# Altium footprint library Sumida_CDRH105R.PcbLib: 1 footprints
Each footprint in its own frame and in the unit in brackets; x right, y up, seen from the top. Pads: shape width x height; smd on the part's side, far side on the other; paste and mask are expansions set on the pad; w line width, h text height; cw(c..) or ccw(c..) is an arc to the next point about the centre after c.
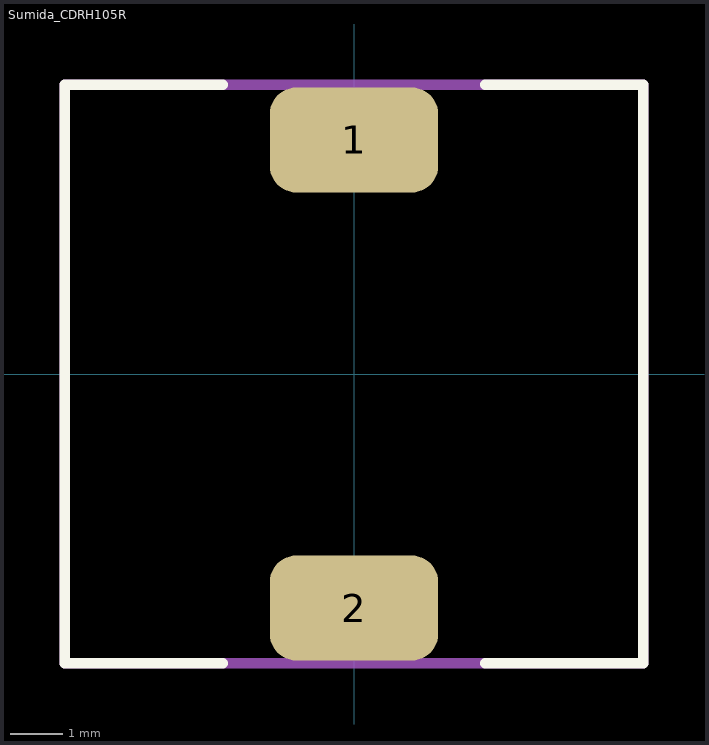
[diagram p0: the footprint, top view; thin cyan lines are the x and y axes]

## Sumida_CDRH105R [mm] "Sumida CDRH105R series"
height 5.1
pads (2):
  rrect50% 3.2x2 smd: 1(0,4.45) 2(0,-4.45)
Top Overlay:
  lines w0.2: -2.5,-5.5 -5.5,-5.5 -5.5,5.5 -2.5,5.5 ; 2.5,-5.5 5.5,-5.5 5.5,5.5 2.5,5.5
Mechanical 15:
  lines w0.2: -5.5,-5.5 5.5,-5.5 5.5,5.5 -5.5,5.5 -5.5,-5.5
3D body: height 5.1, standoff 0, extent -5.15,-5.15 5.15,5.15